# Altium schematic symbol library Interface_I2C.SchLib: 424 symbols (part 4 of 23)
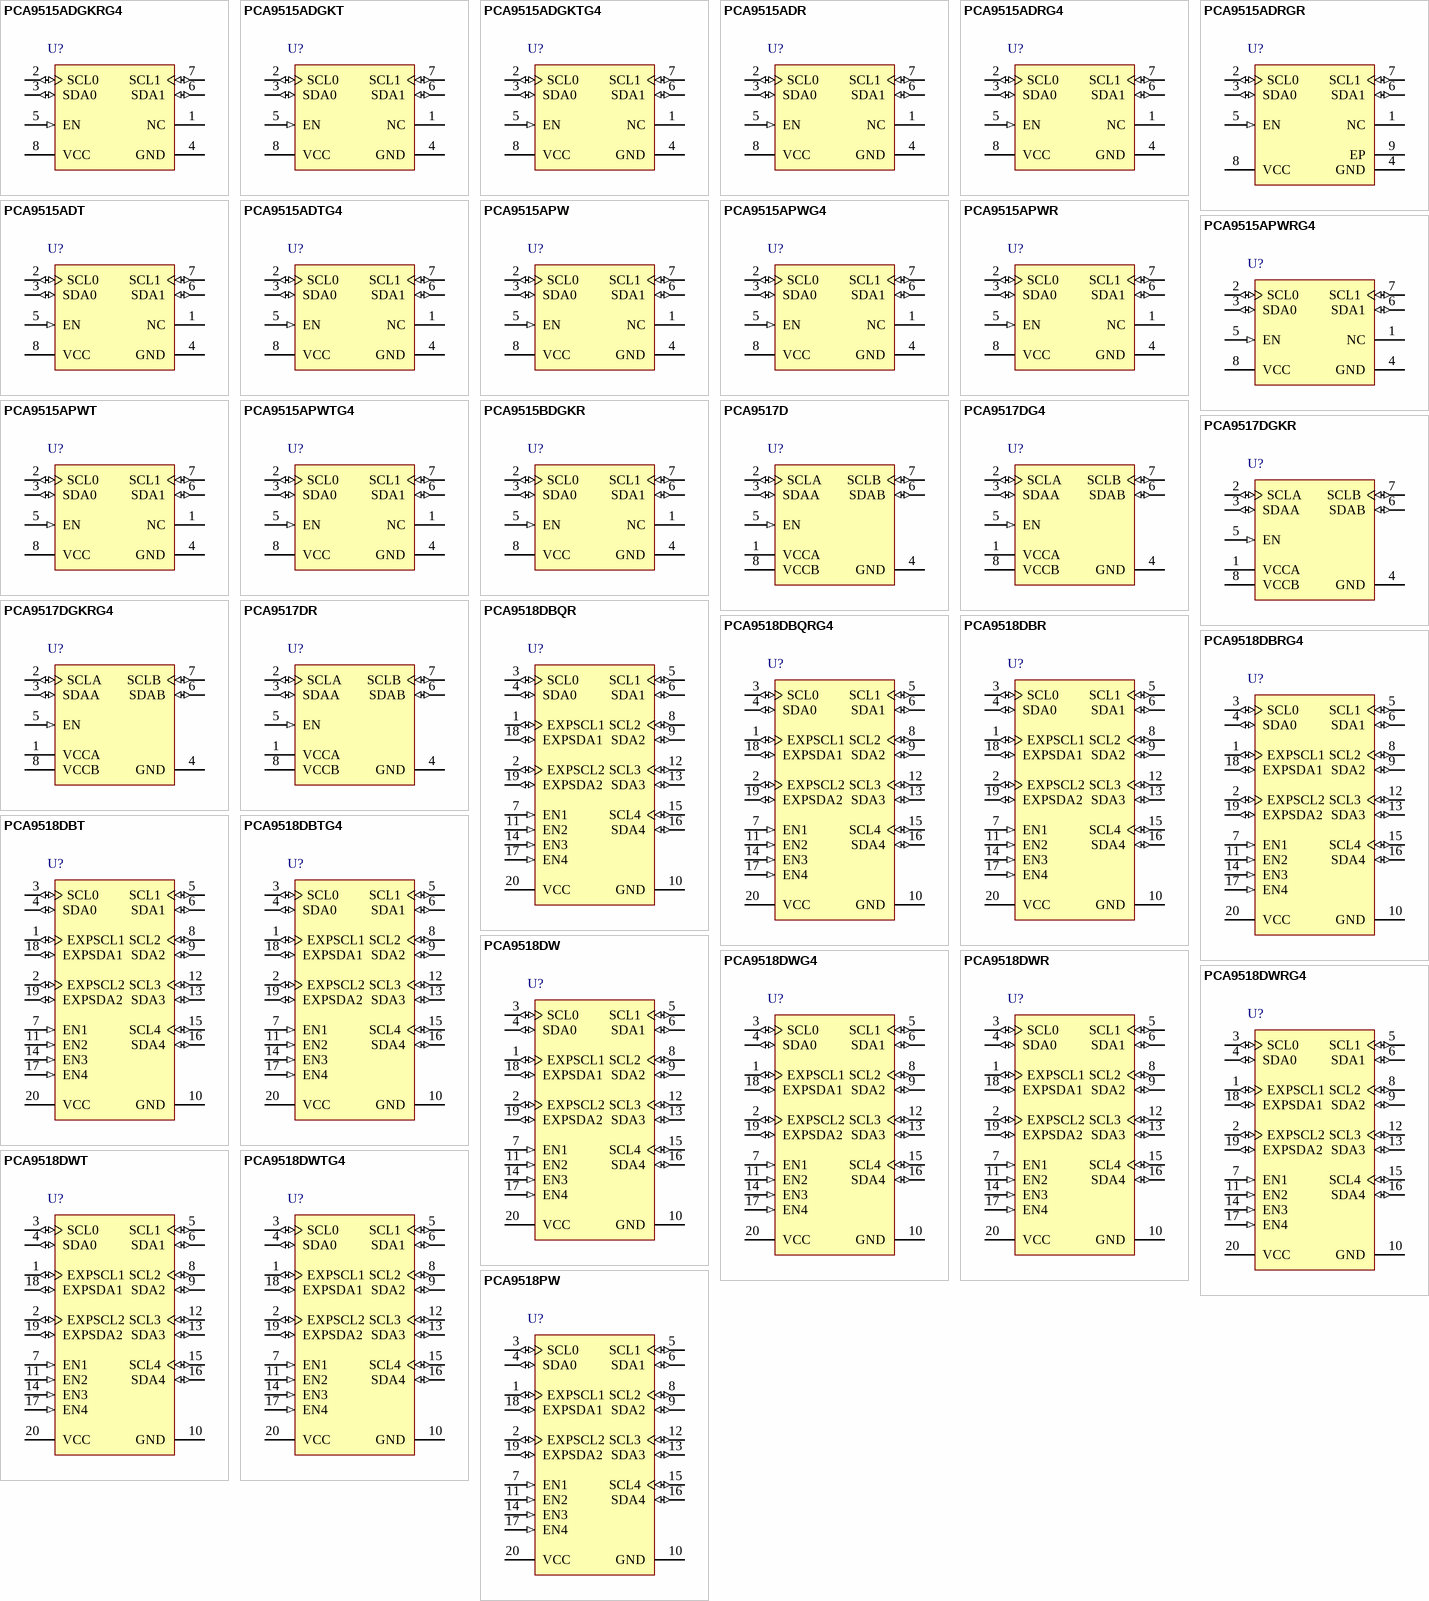
[diagram p16: symbols PCA9515ADGKRG4 to PCA9518PW]

## PCA9518DWTG4
designator U?
Expandable Five-Channel I2C Hub, 5 Channel Width, 3.0 to 3.6 V, -40 to 85 degC, 20-pin SOIC (DW), Green (RoHS & no Sb/Br); Manufacturer: Texas Instruments; PartNumber: PCA9518DWTG4; SubFamily: I2C Hub, Buffer, Repeater; VCC(Max)(V): 3.6; VCC(Min)(V): 3; Technology Family: PCA; Max Frequency(kHz): 400; Channel Width: 5; EXP Pin: Yes; DatasheetVersion: SCPS132A; PackageVersion: revG, Jan-2011; PackageReference: DW20; PackageDescription: 20-Pin Plastic Small Outline Integrated Circuit, 12.8 x 7.5 mm, Pitch 1.27 mm Pitch; Supplier 1: Digi-Key; Supplier Part Number 1: PCA9518DWTG4-ND; Supplier 2: Mouser; Supplier Part Number 2: 595-PCA9518DWTG4; Eco-Plan: Green (RoHS & no Sb/Br); Vcc range(V): 3.0 to 3.6; Master Side I2C Bus Capacitance Supported(pF): 400; Slave Side I2C Bus Capacitance Supported(pF): 400; 5V Tolerant I/O: Yes; Open Drain I/O Type: Yes; Enable Pin: Yes; Mounting Technology: Surface Mount; Code_JEDEC: MS-013-AC; ComponentLink1Description: Datasheet; ComponentLink1URL: http://www.ti.com/general/docs/lit/getliterature.tsp?genericPartNumber=PCA9518&fileType=pdf; ComponentLink2Description: Package Specification; ComponentLink2URL: http://www.ti.com/litv/pdf/mpds006c
footprint DW20_N (SOIC, 20-Leads, Body 12.8x7.5mm, Pitch 1.27mm, IPC Medium Density)
footprint DW20_L (SOIC, 20-Leads, Body 12.8x7.5mm, Pitch 1.27mm, IPC High Density)
footprint DW20_M (SOIC, 20-Leads, Body 12.8x7.5mm, Pitch 1.27mm, IPC Low Density)
pins: 1 EXPSCL1 (io) "Expandable serial clock pin 1. Connect to VCC through a pullup resistor.", 2 EXPSCL2 (io) "Expandable serial clock pin 2. Connect to VCC through a pullup resistor.", 3 SCL0 (io) "Serial clock bus 0. Connect to VCC through a pullup resistor.", 4 SDA0 (io) "Serial data bus 0. Connect to VCC through a pullup resistor.", 5 SCL1 (io) "Serial clock bus 1. Connect to VCC through a pullup resistor.", 6 SDA1 (io) "Serial data bus 1. Connect to VCC through a pullup resistor.", 7 EN1 (in) "Active-high bus enable 1", 8 SCL2 (io) "Serial clock bus 2. Connect to VCC through a pullup resistor.", 9 SDA2 (io) "Serial data bus 2. Connect to VCC through a pullup resistor.", 10 GND (power) "Ground", 11 EN2 (in) "Active-high bus enable 2", 12 SCL3 (io) "Serial clock bus 3. Connect to VCC through a pullup resistor.", 13 SDA3 (io) "Serial data bus 3. Connect to VCC through a pullup resistor.", 14 EN3 (in) "Active-high bus enable 3", 15 SCL4 (io) "Serial clock bus 4. Connect to VCC through a pullup resistor.", 16 SDA4 (io) "Serial data bus 4. Connect to VCC through a pullup resistor.", 17 EN4 (in) "Active-high bus enable 4", 18 EXPSDA1 (io) "Expandable serial data pin 1. Connect to VCC through a pullup resistor.", 19 EXPSDA2 (io) "Expandable serial data pin 2. Connect to VCC through a pullup resistor.", 20 VCC (power) "SupplyVoltage"

## PCA9518PW
designator U?
Expandable Five-Channel I2C Hub, 5 Channel Width, 3.0 to 3.6 V, -40 to 85 degC, 20-pin TSSOP (PW), Green (RoHS & no Sb/Br); Manufacturer: Texas Instruments; PartNumber: PCA9518PW; SubFamily: I2C Hub, Buffer, Repeater; VCC(Max)(V): 3.6; VCC(Min)(V): 3; Technology Family: PCA; Max Frequency(kHz): 400; Channel Width: 5; EXP Pin: Yes; DatasheetVersion: SCPS132A; PackageVersion: revG, Feb-2011; PackageReference: PW20; PackageDescription: 20-Pin Plastic Thin Small Outline Package 6.5 x 4.4 mm Body ,0.65 mm Pitch; Supplier 1: Digi-Key; Supplier Part Number 1: PCA9518PWTI-ND; Supplier 2: Newark; Supplier Part Number 2: 53M3808; Supplier 3: Mouser; Supplier Part Number 3: 595-PCA9518PW; Eco-Plan: Green (RoHS & no Sb/Br); Vcc range(V): 3.0 to 3.6; Master Side I2C Bus Capacitance Supported(pF): 400; Slave Side I2C Bus Capacitance Supported(pF): 400; 5V Tolerant I/O: Yes; Open Drain I/O Type: Yes; Enable Pin: Yes; Mounting Technology: Surface Mount; Code_JEDEC: MO-153; ComponentLink1Description: Datasheet; ComponentLink1URL: http://www.ti.com/general/docs/lit/getliterature.tsp?genericPartNumber=PCA9518&fileType=pdf
footprint PW20_N (TSOP, 20-Leads, Body 6.5x4.4mm, Pitch 0.65mm, IPC Medium Density)
footprint PW20_L (TSOP, 20-Leads, Body 6.5x4.4mm, Pitch 0.65mm, IPC High Density)
footprint PW20_M (TSOP, 20-Leads, Body 6.5x4.4mm, Pitch 0.65mm, IPC Low Density)
pins: 1 EXPSCL1 (io) "Expandable serial clock pin 1. Connect to VCC through a pullup resistor.", 2 EXPSCL2 (io) "Expandable serial clock pin 2. Connect to VCC through a pullup resistor.", 3 SCL0 (io) "Serial clock bus 0. Connect to VCC through a pullup resistor.", 4 SDA0 (io) "Serial data bus 0. Connect to VCC through a pullup resistor.", 5 SCL1 (io) "Serial clock bus 1. Connect to VCC through a pullup resistor.", 6 SDA1 (io) "Serial data bus 1. Connect to VCC through a pullup resistor.", 7 EN1 (in) "Active-high bus enable 1", 8 SCL2 (io) "Serial clock bus 2. Connect to VCC through a pullup resistor.", 9 SDA2 (io) "Serial data bus 2. Connect to VCC through a pullup resistor.", 10 GND (power) "Ground", 11 EN2 (in) "Active-high bus enable 2", 12 SCL3 (io) "Serial clock bus 3. Connect to VCC through a pullup resistor.", 13 SDA3 (io) "Serial data bus 3. Connect to VCC through a pullup resistor.", 14 EN3 (in) "Active-high bus enable 3", 15 SCL4 (io) "Serial clock bus 4. Connect to VCC through a pullup resistor.", 16 SDA4 (io) "Serial data bus 4. Connect to VCC through a pullup resistor.", 17 EN4 (in) "Active-high bus enable 4", 18 EXPSDA1 (io) "Expandable serial data pin 1. Connect to VCC through a pullup resistor.", 19 EXPSDA2 (io) "Expandable serial data pin 2. Connect to VCC through a pullup resistor.", 20 VCC (power) "Supply Voltage"

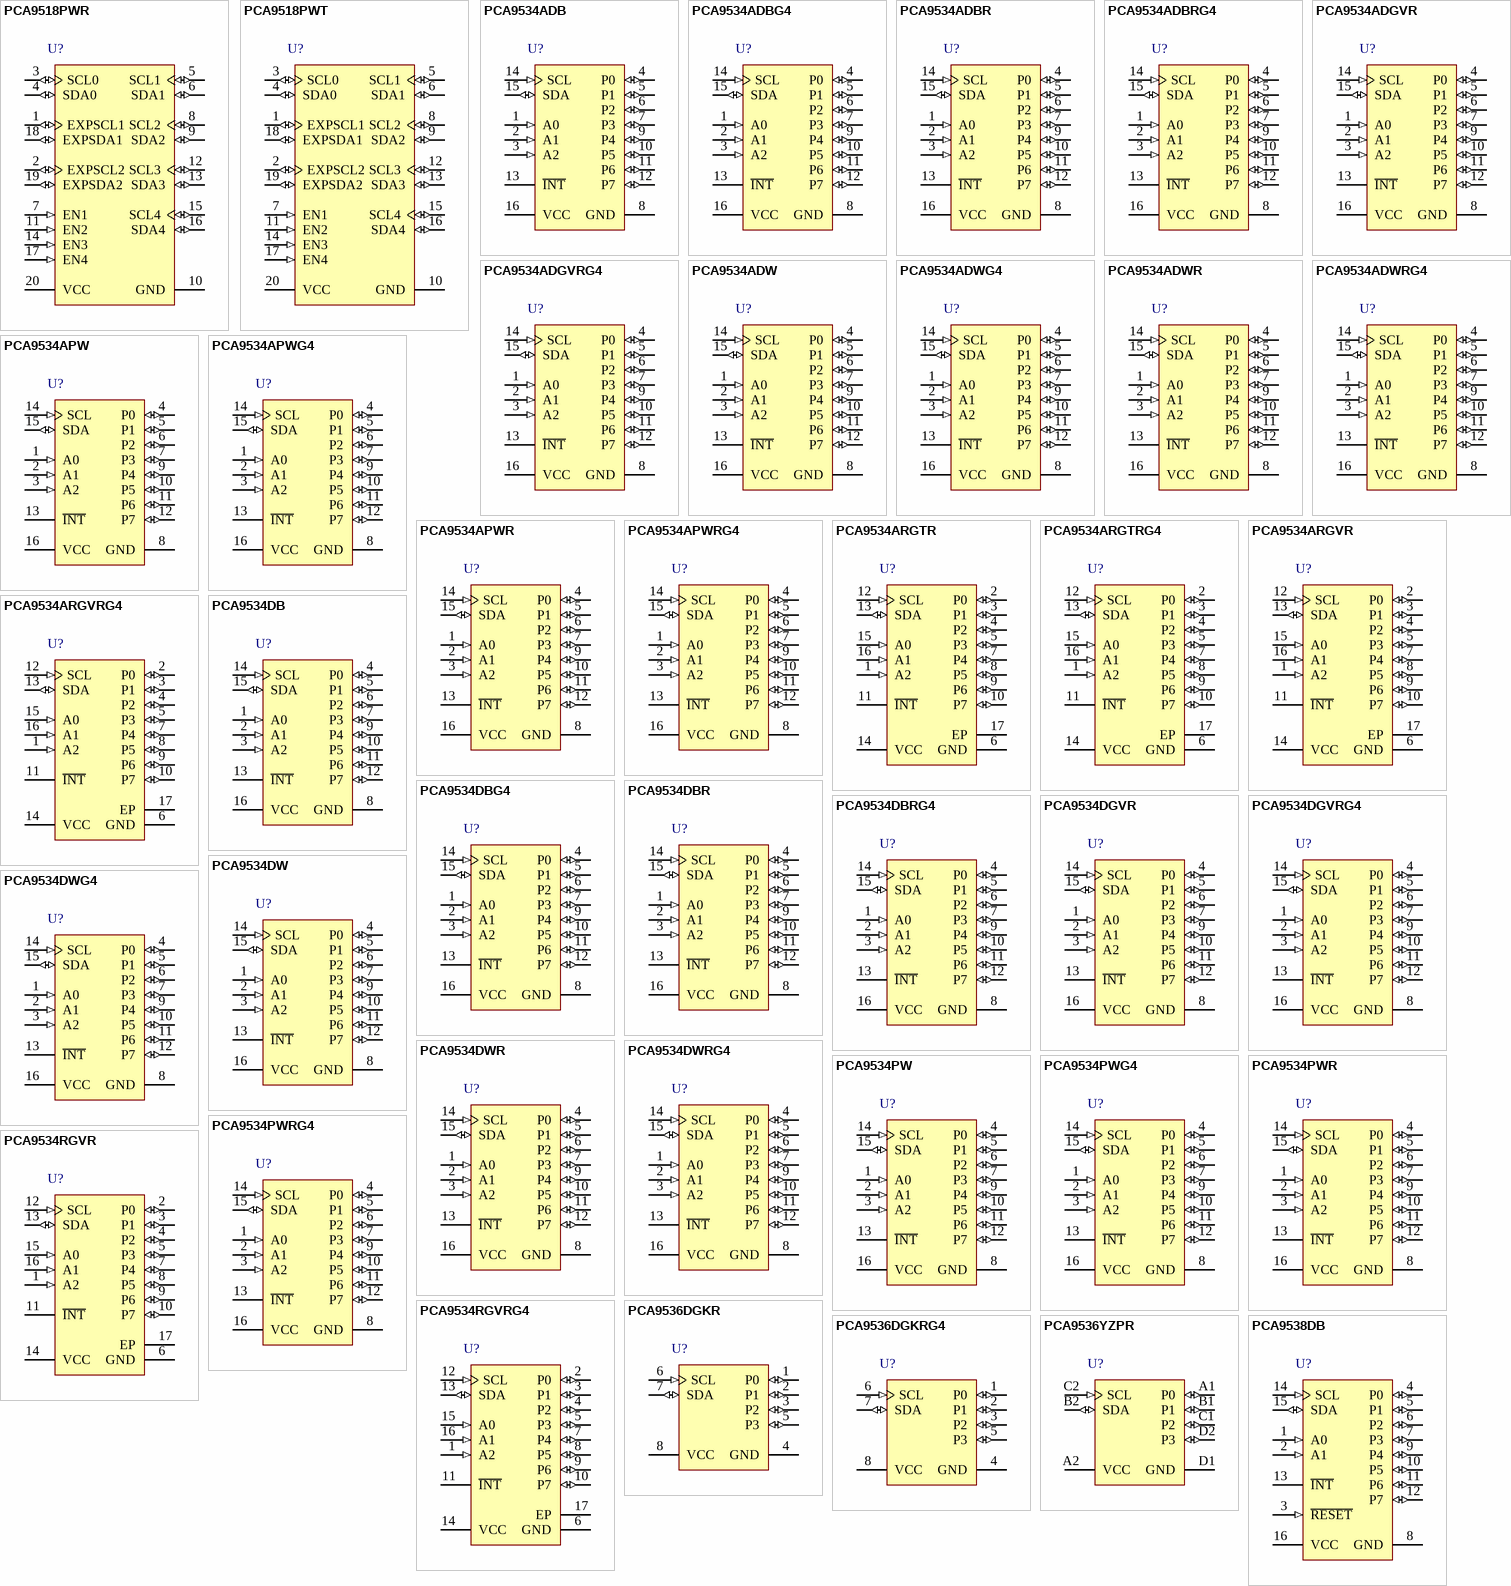
[diagram p2: symbols PCA9518PWR to PCA9538DB]

## PCA9518PWR
designator U?
Expandable Five-Channel I2C Hub, 5 Channel Width, 3.0 to 3.6 V, -40 to 85 degC, 20-pin TSSOP (PW), Green (RoHS & no Sb/Br); Manufacturer: Texas Instruments; PartNumber: PCA9518PWR; SubFamily: I2C Hub, Buffer, Repeater; VCC(Max)(V): 3.6; VCC(Min)(V): 3; Technology Family: PCA; Max Frequency(kHz): 400; Channel Width: 5; EXP Pin: Yes; DatasheetVersion: SCPS132A; PackageVersion: revG, Feb-2011; PackageReference: PW20; PackageDescription: 20-Pin Plastic Thin Small Outline Package 6.5 x 4.4 mm Body ,0.65 mm Pitch; Supplier 1: Digi-Key; Supplier Part Number 1: 296-22767-2-ND; Supplier 2: Digi-Key; Supplier Part Number 2: 296-22767-1-ND; Supplier 3: Digi-Key; Supplier Part Number 3: 296-22767-6-ND; Supplier 4: Newark; Supplier Part Number 4: 53M3809; Supplier 5: Mouser; Supplier Part Number 5: 595-PCA9518PWR; Eco-Plan: Green (RoHS & no Sb/Br); Vcc range(V): 3.0 to 3.6; Master Side I2C Bus Capacitance Supported(pF): 400; Slave Side I2C Bus Capacitance Supported(pF): 400; 5V Tolerant I/O: Yes; Open Drain I/O Type: Yes; Enable Pin: Yes; Mounting Technology: Surface Mount; Code_JEDEC: MO-153; ComponentLink1Description: Datasheet; ComponentLink1URL: http://www.ti.com/general/docs/lit/getliterature.tsp?genericPartNumber=PCA9518&fileType=pdf
footprint PW20_N (TSOP, 20-Leads, Body 6.5x4.4mm, Pitch 0.65mm, IPC Medium Density)
footprint PW20_L (TSOP, 20-Leads, Body 6.5x4.4mm, Pitch 0.65mm, IPC High Density)
footprint PW20_M (TSOP, 20-Leads, Body 6.5x4.4mm, Pitch 0.65mm, IPC Low Density)
pins: 1 EXPSCL1 (io) "Expandable serial clock pin 1. Connect to VCC through a pullup resistor.", 2 EXPSCL2 (io) "Expandable serial clock pin 2. Connect to VCC through a pullup resistor.", 3 SCL0 (io) "Serial clock bus 0. Connect to VCC through a pullup resistor.", 4 SDA0 (io) "Serial data bus 0. Connect to VCC through a pullup resistor.", 5 SCL1 (io) "Serial clock bus 1. Connect to VCC through a pullup resistor.", 6 SDA1 (io) "Serial data bus 1. Connect to VCC through a pullup resistor.", 7 EN1 (in) "Active-high bus enable 1", 8 SCL2 (io) "Serial clock bus 2. Connect to VCC through a pullup resistor.", 9 SDA2 (io) "Serial data bus 2. Connect to VCC through a pullup resistor.", 10 GND (power) "Ground", 11 EN2 (in) "Active-high bus enable 2", 12 SCL3 (io) "Serial clock bus 3. Connect to VCC through a pullup resistor.", 13 SDA3 (io) "Serial data bus 3. Connect to VCC through a pullup resistor.", 14 EN3 (in) "Active-high bus enable 3", 15 SCL4 (io) "Serial clock bus 4. Connect to VCC through a pullup resistor.", 16 SDA4 (io) "Serial data bus 4. Connect to VCC through a pullup resistor.", 17 EN4 (in) "Active-high bus enable 4", 18 EXPSDA1 (io) "Expandable serial data pin 1. Connect to VCC through a pullup resistor.", 19 EXPSDA2 (io) "Expandable serial data pin 2. Connect to VCC through a pullup resistor.", 20 VCC (power) "Supply Voltage"

## PCA9518PWT
designator U?
Expandable Five-Channel I2C Hub, 5 Channel Width, 3.0 to 3.6 V, -40 to 85 degC, 20-pin TSSOP (PW), Green (RoHS & no Sb/Br); Manufacturer: Texas Instruments; PartNumber: PCA9518PWT; SubFamily: I2C Hub, Buffer, Repeater; VCC(Max)(V): 3.6; VCC(Min)(V): 3; Technology Family: PCA; Max Frequency(kHz): 400; Channel Width: 5; EXP Pin: Yes; DatasheetVersion: SCPS132A; PackageVersion: revG, Feb-2011; PackageReference: PW20; PackageDescription: 20-Pin Plastic Thin Small Outline Package 6.5 x 4.4 mm Body ,0.65 mm Pitch; Supplier 1: Digi-Key; Supplier Part Number 1: PCA9518PWT-ND; Supplier 2: Newark; Supplier Part Number 2: 53M3810; Supplier 3: Mouser; Supplier Part Number 3: 595-PCA9518PWT; Eco-Plan: Green (RoHS & no Sb/Br); Vcc range(V): 3.0 to 3.6; Master Side I2C Bus Capacitance Supported(pF): 400; Slave Side I2C Bus Capacitance Supported(pF): 400; 5V Tolerant I/O: Yes; Open Drain I/O Type: Yes; Enable Pin: Yes; Mounting Technology: Surface Mount; Code_JEDEC: MO-153; ComponentLink1Description: Datasheet; ComponentLink1URL: http://www.ti.com/general/docs/lit/getliterature.tsp?genericPartNumber=PCA9518&fileType=pdf
footprint PW20_N (TSOP, 20-Leads, Body 6.5x4.4mm, Pitch 0.65mm, IPC Medium Density)
footprint PW20_L (TSOP, 20-Leads, Body 6.5x4.4mm, Pitch 0.65mm, IPC High Density)
footprint PW20_M (TSOP, 20-Leads, Body 6.5x4.4mm, Pitch 0.65mm, IPC Low Density)
pins: 1 EXPSCL1 (io) "Expandable serial clock pin 1. Connect to VCC through a pullup resistor.", 2 EXPSCL2 (io) "Expandable serial clock pin 2. Connect to VCC through a pullup resistor.", 3 SCL0 (io) "Serial clock bus 0. Connect to VCC through a pullup resistor.", 4 SDA0 (io) "Serial data bus 0. Connect to VCC through a pullup resistor.", 5 SCL1 (io) "Serial clock bus 1. Connect to VCC through a pullup resistor.", 6 SDA1 (io) "Serial data bus 1. Connect to VCC through a pullup resistor.", 7 EN1 (in) "Active-high bus enable 1", 8 SCL2 (io) "Serial clock bus 2. Connect to VCC through a pullup resistor.", 9 SDA2 (io) "Serial data bus 2. Connect to VCC through a pullup resistor.", 10 GND (power) "Ground", 11 EN2 (in) "Active-high bus enable 2", 12 SCL3 (io) "Serial clock bus 3. Connect to VCC through a pullup resistor.", 13 SDA3 (io) "Serial data bus 3. Connect to VCC through a pullup resistor.", 14 EN3 (in) "Active-high bus enable 3", 15 SCL4 (io) "Serial clock bus 4. Connect to VCC through a pullup resistor.", 16 SDA4 (io) "Serial data bus 4. Connect to VCC through a pullup resistor.", 17 EN4 (in) "Active-high bus enable 4", 18 EXPSDA1 (io) "Expandable serial data pin 1. Connect to VCC through a pullup resistor.", 19 EXPSDA2 (io) "Expandable serial data pin 2. Connect to VCC through a pullup resistor.", 20 VCC (power) "Supply Voltage"

## PCA9534ADB
designator U?
Remote 8-Bit I2C and Low-Power I/O Expander with Interrupt Output and Configuration Registers, 8 Outputs, 2.3 to 5.5 V, -40 to 85 degC, 16-pin SSOP (DB), Green (RoHS & no Sb/Br); Manufacturer: Texas Instruments; PartNumber: PCA9534ADB; SubFamily: I2C IO Expander; No. of Outputs: 8; Interrupt Output: Yes; fSCLK(Max)(MHz): 0.1, 0.4; VCC(Min)(V): 2.3; VCC(Max)(V): 5.5; Max Frequency(kHz): 400; I2C Address: 0111 xxx; DatasheetVersion: SCPS141F; PackageVersion: revE, Dec-2001; PackageReference: DB16; PackageDescription: 16-Pin Plastic Small Outline Package, 6.2 x 5.3 mm Body, 0.65 mm Pitch; Supplier 1: Digi-Key; Supplier Part Number 1: PCA9534ADB-ND; Supplier 2: Mouser; Supplier Part Number 2: 595-PCA9534ADB; Eco-Plan: Green (RoHS & no Sb/Br); # of I/Os: 8; Vcc range(V): 2.3 to 5.5; Low Power: Yes; Configuration Registers: Yes; 5V Tolerant I/O: Yes; Push-Pull I/O Type: Yes; Mounting Technology: Surface Mount; Code_JEDEC: MO-150; ComponentLink1Description: Datasheet; ComponentLink1URL: http://www.ti.com/general/docs/lit/getliterature.tsp?genericPartNumber=PCA9534A&fileType=pdf; ComponentLink2Description: Package Specification; ComponentLink2URL: http://www.ti.com/litv/pdf/msso002e
footprint DB16_N (SOP, 16-Leads, Body 6.2x5.3mm, Pitch 0.65mm, IPC Medium Density)
footprint DB16_L (SOP, 16-Leads, Body 6.2x5.3mm, Pitch 0.65mm, IPC High Density)
footprint DB16_M (SOP, 16-Leads, Body 6.2x5.3mm, Pitch 0.65mm, IPC Low Density)
pins: 1 A0 (in) "Address input. Connect directly to VCC or ground.", 2 A1 (in) "Address input. Connect directly to VCC or ground.", 3 A2 (in) "Address input. Connect directly to VCC or ground.", 4 P0 (io) "P-port input/output. Push-pull design structure.", 5 P1 (io) "P-port input/output. Push-pull design structure.", 6 P2 (io) "P-port input/output. Push-pull design structure.", 7 P3 (io) "P-port input/output. Push-pull design structure.", 8 GND (power) "Ground", 9 P4 (io) "P-port input/output. Push-pull design structure.", 10 P5 (io) "P-port input/output. Push-pull design structure.", 11 P6 (io) "P-port input/output. Push-pull design structure.", 12 P7 (io) "P-port input/output. Push-pull design structure.", 13 ~{INT} (oc) "Interrupt output. Connect to VCC through a pullup resistor.", 14 SCL (in) "Serial clock bus. Connect to VCC through a pullup resistor.", 15 SDA (io) "Serial data bus. Connect to VCC through a pullup resistor.", 16 VCC (power) "Supply voltage"

## PCA9534ADBG4
designator U?
Remote 8-Bit I2C and Low-Power I/O Expander with Interrupt Output and Configuration Registers, 8 Outputs, 2.3 to 5.5 V, -40 to 85 degC, 16-pin SSOP (DB), Green (RoHS & no Sb/Br); Manufacturer: Texas Instruments; PartNumber: PCA9534ADBG4; SubFamily: I2C IO Expander; No. of Outputs: 8; Interrupt Output: Yes; fSCLK(Max)(MHz): 0.1, 0.4; VCC(Min)(V): 2.3; VCC(Max)(V): 5.5; Max Frequency(kHz): 400; I2C Address: 0111 xxx; DatasheetVersion: SCPS141F; PackageVersion: revE, Dec-2001; PackageReference: DB16; PackageDescription: 16-Pin Plastic Small Outline Package, 6.2 x 5.3 mm Body, 0.65 mm Pitch; Supplier 1: Digi-Key; Supplier Part Number 1: PCA9534ADBG4-ND; Supplier 2: Mouser; Supplier Part Number 2: 595-PCA9534ADBG4; Eco-Plan: Green (RoHS & no Sb/Br); # of I/Os: 8; Vcc range(V): 2.3 to 5.5; Low Power: Yes; Configuration Registers: Yes; 5V Tolerant I/O: Yes; Push-Pull I/O Type: Yes; Mounting Technology: Surface Mount; Code_JEDEC: MO-150; ComponentLink1Description: Datasheet; ComponentLink1URL: http://www.ti.com/general/docs/lit/getliterature.tsp?genericPartNumber=PCA9534A&fileType=pdf; ComponentLink2Description: Package Specification; ComponentLink2URL: http://www.ti.com/litv/pdf/msso002e
footprint DB16_N (SOP, 16-Leads, Body 6.2x5.3mm, Pitch 0.65mm, IPC Medium Density)
footprint DB16_L (SOP, 16-Leads, Body 6.2x5.3mm, Pitch 0.65mm, IPC High Density)
footprint DB16_M (SOP, 16-Leads, Body 6.2x5.3mm, Pitch 0.65mm, IPC Low Density)
pins: 1 A0 (in) "Address input. Connect directly to VCC or ground.", 2 A1 (in) "Address input. Connect directly to VCC or ground.", 3 A2 (in) "Address input. Connect directly to VCC or ground.", 4 P0 (io) "P-port input/output. Push-pull design structure.", 5 P1 (io) "P-port input/output. Push-pull design structure.", 6 P2 (io) "P-port input/output. Push-pull design structure.", 7 P3 (io) "P-port input/output. Push-pull design structure.", 8 GND (power) "Ground", 9 P4 (io) "P-port input/output. Push-pull design structure.", 10 P5 (io) "P-port input/output. Push-pull design structure.", 11 P6 (io) "P-port input/output. Push-pull design structure.", 12 P7 (io) "P-port input/output. Push-pull design structure.", 13 ~{INT} (oc) "Interrupt output. Connect to VCC through a pullup resistor.", 14 SCL (in) "Serial clock bus. Connect to VCC through a pullup resistor.", 15 SDA (io) "Serial data bus. Connect to VCC through a pullup resistor.", 16 VCC (power) "Supply voltage"

## PCA9534ADBR
designator U?
Remote 8-Bit I2C and Low-Power I/O Expander with Interrupt Output and Configuration Registers, 8 Outputs, 2.3 to 5.5 V, -40 to 85 degC, 16-pin SSOP (DB), Green (RoHS & no Sb/Br); Manufacturer: Texas Instruments; PartNumber: PCA9534ADBR; SubFamily: I2C IO Expander; No. of Outputs: 8; Interrupt Output: Yes; fSCLK(Max)(MHz): 0.1, 0.4; VCC(Min)(V): 2.3; VCC(Max)(V): 5.5; Max Frequency(kHz): 400; I2C Address: 0111 xxx; DatasheetVersion: SCPS141F; PackageVersion: revE, Dec-2001; PackageReference: DB16; PackageDescription: 16-Pin Plastic Small Outline Package, 6.2 x 5.3 mm Body, 0.65 mm Pitch; Supplier 1: Digi-Key; Supplier Part Number 1: 296-21757-2-ND; Supplier 2: Digi-Key; Supplier Part Number 2: 296-21757-1-ND; Supplier 3: Digi-Key; Supplier Part Number 3: 296-21757-6-ND; Supplier 4: Newark; Supplier Part Number 4: 18M7509; Supplier 5: Mouser; Supplier Part Number 5: 595-PCA9534ADBR; Eco-Plan: Green (RoHS & no Sb/Br); # of I/Os: 8; Vcc range(V): 2.3 to 5.5; Low Power: Yes; Configuration Registers: Yes; 5V Tolerant I/O: Yes; Push-Pull I/O Type: Yes; Mounting Technology: Surface Mount; Code_JEDEC: MO-150; ComponentLink1Description: Datasheet; ComponentLink1URL: http://www.ti.com/general/docs/lit/getliterature.tsp?genericPartNumber=PCA9534A&fileType=pdf; ComponentLink2Description: Package Specification; ComponentLink2URL: http://www.ti.com/litv/pdf/msso002e
footprint DB16_N (SOP, 16-Leads, Body 6.2x5.3mm, Pitch 0.65mm, IPC Medium Density)
footprint DB16_L (SOP, 16-Leads, Body 6.2x5.3mm, Pitch 0.65mm, IPC High Density)
footprint DB16_M (SOP, 16-Leads, Body 6.2x5.3mm, Pitch 0.65mm, IPC Low Density)
pins: 1 A0 (in) "Address input. Connect directly to VCC or ground.", 2 A1 (in) "Address input. Connect directly to VCC or ground.", 3 A2 (in) "Address input. Connect directly to VCC or ground.", 4 P0 (io) "P-port input/output. Push-pull design structure.", 5 P1 (io) "P-port input/output. Push-pull design structure.", 6 P2 (io) "P-port input/output. Push-pull design structure.", 7 P3 (io) "P-port input/output. Push-pull design structure.", 8 GND (power) "Ground", 9 P4 (io) "P-port input/output. Push-pull design structure.", 10 P5 (io) "P-port input/output. Push-pull design structure.", 11 P6 (io) "P-port input/output. Push-pull design structure.", 12 P7 (io) "P-port input/output. Push-pull design structure.", 13 ~{INT} (oc) "Interrupt output. Connect to VCC through a pullup resistor.", 14 SCL (in) "Serial clock bus. Connect to VCC through a pullup resistor.", 15 SDA (io) "Serial data bus. Connect to VCC through a pullup resistor.", 16 VCC (power) "Supply voltage"

## PCA9534ADBRG4
designator U?
Remote 8-Bit I2C and Low-Power I/O Expander with Interrupt Output and Configuration Registers, 8 Outputs, 2.3 to 5.5 V, -40 to 85 degC, 16-pin SSOP (DB), Green (RoHS & no Sb/Br); Manufacturer: Texas Instruments; PartNumber: PCA9534ADBRG4; SubFamily: I2C IO Expander; No. of Outputs: 8; Interrupt Output: Yes; fSCLK(Max)(MHz): 0.1, 0.4; VCC(Min)(V): 2.3; VCC(Max)(V): 5.5; Max Frequency(kHz): 400; I2C Address: 0111 xxx; DatasheetVersion: SCPS141F; PackageVersion: revE, Dec-2001; PackageReference: DB16; PackageDescription: 16-Pin Plastic Small Outline Package, 6.2 x 5.3 mm Body, 0.65 mm Pitch; Supplier 1: Digi-Key; Supplier Part Number 1: PCA9534ADBRG4-ND; Supplier 2: Mouser; Supplier Part Number 2: 595-PCA9534ADBRG4; Eco-Plan: Green (RoHS & no Sb/Br); # of I/Os: 8; Vcc range(V): 2.3 to 5.5; Low Power: Yes; Configuration Registers: Yes; 5V Tolerant I/O: Yes; Push-Pull I/O Type: Yes; Mounting Technology: Surface Mount; Code_JEDEC: MO-150; ComponentLink1Description: Datasheet; ComponentLink1URL: http://www.ti.com/general/docs/lit/getliterature.tsp?genericPartNumber=PCA9534A&fileType=pdf; ComponentLink2Description: Package Specification; ComponentLink2URL: http://www.ti.com/litv/pdf/msso002e
footprint DB16_N (SOP, 16-Leads, Body 6.2x5.3mm, Pitch 0.65mm, IPC Medium Density)
footprint DB16_L (SOP, 16-Leads, Body 6.2x5.3mm, Pitch 0.65mm, IPC High Density)
footprint DB16_M (SOP, 16-Leads, Body 6.2x5.3mm, Pitch 0.65mm, IPC Low Density)
pins: 1 A0 (in) "Address input. Connect directly to VCC or ground.", 2 A1 (in) "Address input. Connect directly to VCC or ground.", 3 A2 (in) "Address input. Connect directly to VCC or ground.", 4 P0 (io) "P-port input/output. Push-pull design structure.", 5 P1 (io) "P-port input/output. Push-pull design structure.", 6 P2 (io) "P-port input/output. Push-pull design structure.", 7 P3 (io) "P-port input/output. Push-pull design structure.", 8 GND (power) "Ground", 9 P4 (io) "P-port input/output. Push-pull design structure.", 10 P5 (io) "P-port input/output. Push-pull design structure.", 11 P6 (io) "P-port input/output. Push-pull design structure.", 12 P7 (io) "P-port input/output. Push-pull design structure.", 13 ~{INT} (oc) "Interrupt output. Connect to VCC through a pullup resistor.", 14 SCL (in) "Serial clock bus. Connect to VCC through a pullup resistor.", 15 SDA (io) "Serial data bus. Connect to VCC through a pullup resistor.", 16 VCC (power) "Supply voltage"

## PCA9534ADGVR
designator U?
Remote 8-Bit I2C and Low-Power I/O Expander with Interrupt Output and Configuration Registers, 8 Outputs, 2.3 to 5.5 V, -40 to 85 degC, 16-pin TVSOP (DGV) , Green (RoHS & no Sb/Br); Manufacturer: Texas Instruments; PartNumber: PCA9534ADGVR; SubFamily: I2C IO Expander; No. of Outputs: 8; Interrupt Output: Yes; fSCLK(Max)(MHz): 0.1, 0.4; VCC(Min)(V): 2.3; VCC(Max)(V): 5.5; Max Frequency(kHz): 400; I2C Address: 0111 xxx; DatasheetVersion: SCPS141F; PackageVersion: revE, Aug-2000; PackageReference: DGV16; PackageDescription: 16-Pin Thin Shrink Small Outline Package 0.4 mm Pitch; Supplier 1: Digi-Key; Supplier Part Number 1: 296-21758-2-ND; Supplier 2: Digi-Key; Supplier Part Number 2: 296-21758-1-ND; Supplier 3: Digi-Key; Supplier Part Number 3: 296-21758-6-ND; Supplier 4: Mouser; Supplier Part Number 4: 595-PCA9534ADGVR; Eco-Plan: Green (RoHS & no Sb/Br); # of I/Os: 8; Vcc range(V): 2.3 to 5.5; Low Power: Yes; Configuration Registers: Yes; 5V Tolerant I/O: Yes; Push-Pull I/O Type: Yes; Mounting Technology: Surface Mount; Code_JEDEC: MO-194; ComponentLink1Description: Datasheet; ComponentLink1URL: http://www.ti.com/general/docs/lit/getliterature.tsp?genericPartNumber=PCA9534A&fileType=pdf; ComponentLink2Description: Package Specification; ComponentLink2URL: http://www.ti.com/litv/pdf/msso002e
footprint DGV16_N (TSSOP, 16-Leads, Body 3.6x4.4mm, Pitch 0.4mm, IPC Medium Density)
footprint DGV16_L (TSSOP, 16-Leads, Body 3.6x4.4mm, Pitch 0.4mm, IPC High Density)
footprint DGV16_M (TSSOP, 16-Leads, Body 3.6x4.4mm, Pitch 0.4mm, IPC Low Density)
pins: 1 A0 (in) "Address input. Connect directly to VCC or ground.", 2 A1 (in) "Address input. Connect directly to VCC or ground.", 3 A2 (in) "Address input. Connect directly to VCC or ground.", 4 P0 (io) "P-port input/output. Push-pull design structure.", 5 P1 (io) "P-port input/output. Push-pull design structure.", 6 P2 (io) "P-port input/output. Push-pull design structure.", 7 P3 (io) "P-port input/output. Push-pull design structure.", 8 GND (power) "Ground", 9 P4 (io) "P-port input/output. Push-pull design structure.", 10 P5 (io) "P-port input/output. Push-pull design structure.", 11 P6 (io) "P-port input/output. Push-pull design structure.", 12 P7 (io) "P-port input/output. Push-pull design structure.", 13 ~{INT} (oc) "Interrupt output. Connect to VCC through a pullup resistor.", 14 SCL (in) "Serial clock bus. Connect to VCC through a pullup resistor.", 15 SDA (io) "Serial data bus. Connect to VCC through a pullup resistor.", 16 VCC (power) "Supply voltage"

## PCA9534ADGVRG4
designator U?
Remote 8-Bit I2C and Low-Power I/O Expander with Interrupt Output and Configuration Register, 8 Outputs, 2.3 to 5.5 V, -40 to 85 degC, 16-pin TVSOP (DGV) , Green (RoHS & no Sb/Br); Manufacturer: Texas Instruments; PartNumber: PCA9534ADGVRG4; SubFamily: I2C IO Expander; No. of Outputs: 8; Interrupt Output: Yes; fSCLK(Max)(MHz): 0.1, 0.4; VCC(Min)(V): 2.3; VCC(Max)(V): 5.5; Max Frequency(kHz): 400; I2C Address: 0111 xxx; DatasheetVersion: SCPS141F; PackageVersion: revE, Aug-2000; PackageReference: DGV16; PackageDescription: 16-Pin Thin Shrink Small Outline Package 0.4 mm Pitch; Supplier 1: Digi-Key; Supplier Part Number 1: PCA9534ADGVRG4-ND; Supplier 2: Mouser; Supplier Part Number 2: 595-PCA9534ADGVRG4; Eco-Plan: Green (RoHS & no Sb/Br); # of I/Os: 8; Vcc range(V): 2.3 to 5.5; Low Power: Yes; Configuration Registers: Yes; 5V Tolerant I/O: Yes; Push-Pull I/O Type: Yes; Mounting Technology: Surface Mount; Code_JEDEC: MO-194; ComponentLink1Description: Datasheet; ComponentLink1URL: http://www.ti.com/general/docs/lit/getliterature.tsp?genericPartNumber=PCA9534A&fileType=pdf; ComponentLink2Description: Package Specification; ComponentLink2URL: http://www.ti.com/litv/pdf/msso002e
footprint DGV16_N (TSSOP, 16-Leads, Body 3.6x4.4mm, Pitch 0.4mm, IPC Medium Density)
footprint DGV16_L (TSSOP, 16-Leads, Body 3.6x4.4mm, Pitch 0.4mm, IPC High Density)
footprint DGV16_M (TSSOP, 16-Leads, Body 3.6x4.4mm, Pitch 0.4mm, IPC Low Density)
pins: 1 A0 (in) "Address input. Connect directly to VCC or ground.", 2 A1 (in) "Address input. Connect directly to VCC or ground.", 3 A2 (in) "Address input. Connect directly to VCC or ground.", 4 P0 (io) "P-port input/output. Push-pull design structure.", 5 P1 (io) "P-port input/output. Push-pull design structure.", 6 P2 (io) "P-port input/output. Push-pull design structure.", 7 P3 (io) "P-port input/output. Push-pull design structure.", 8 GND (power) "Ground", 9 P4 (io) "P-port input/output. Push-pull design structure.", 10 P5 (io) "P-port input/output. Push-pull design structure.", 11 P6 (io) "P-port input/output. Push-pull design structure.", 12 P7 (io) "P-port input/output. Push-pull design structure.", 13 ~{INT} (oc) "Interrupt output. Connect to VCC through a pullup resistor.", 14 SCL (in) "Serial clock bus. Connect to VCC through a pullup resistor.", 15 SDA (io) "Serial data bus. Connect to VCC through a pullup resistor.", 16 VCC (power) "Supply voltage"

## PCA9534ADW
designator U?
Remote 8-Bit I2C and Low-Power I/O Expander with Interrupt Output and Configuration Register, 8 Outputs, 2.3 to 5.5 V, -40 to 85 degC, 16-pin SOIC (DW), Green (RoHS & no Sb/Br); Manufacturer: Texas Instruments; PartNumber: PCA9534ADW; SubFamily: I2C IO Expander; No. of Outputs: 8; Interrupt Output: Yes; fSCLK(Max)(MHz): 0.1, 0.4; VCC(Min)(V): 2.3; VCC(Max)(V): 5.5; Max Frequency(kHz): 400; I2C Address: 0111 xxx; DatasheetVersion: SCPS141F; PackageVersion: revG, Jan-2011; PackageReference: DW16; PackageDescription: 16-Pin Small Outline Integrated Circuit, 10.3 x 7.5 mm, Pitch 1.27 mm Pitch; Supplier 1: Digi-Key; Supplier Part Number 1: PCA9534ADW-ND; Supplier 2: Mouser; Supplier Part Number 2: 595-PCA9534ADW; Eco-Plan: Green (RoHS & no Sb/Br); # of I/Os: 8; Vcc range(V): 2.3 to 5.5; Low Power: Yes; Configuration Registers: Yes; 5V Tolerant I/O: Yes; Push-Pull I/O Type: Yes; Mounting Technology: Surface Mount; Code_JEDEC: MS-013-AA; ComponentLink1Description: Datasheet; ComponentLink1URL: http://www.ti.com/general/docs/lit/getliterature.tsp?genericPartNumber=PCA9534A&fileType=pdf; ComponentLink2Description: Package Specification; ComponentLink2URL: http://www.ti.com/litv/pdf/msoi003g
footprint DW16_N (SOIC, 16-Leads, Body 10.3x7.5mm, Pitch 1.27mm, IPC Medium Density)
footprint DW16_L (SOIC, 16-Leads, Body 10.3x7.5mm, Pitch 1.27mm, IPC High Density)
footprint DW16_M (SOIC, 16-Leads, Body 10.3x7.5mm, Pitch 1.27mm, IPC Low Density)
pins: 1 A0 (in) "Address input. Connect directly to VCC or ground.", 2 A1 (in) "Address input. Connect directly to VCC or ground.", 3 A2 (in) "Address input. Connect directly to VCC or ground.", 4 P0 (io) "P-port input/output. Push-pull design structure.", 5 P1 (io) "P-port input/output. Push-pull design structure.", 6 P2 (io) "P-port input/output. Push-pull design structure.", 7 P3 (io) "P-port input/output. Push-pull design structure.", 8 GND (power) "Ground", 9 P4 (io) "P-port input/output. Push-pull design structure.", 10 P5 (io) "P-port input/output. Push-pull design structure.", 11 P6 (io) "P-port input/output. Push-pull design structure.", 12 P7 (io) "P-port input/output. Push-pull design structure.", 13 ~{INT} (oc) "Interrupt output. Connect to VCC through a pullup resistor.", 14 SCL (in) "Serial clock bus. Connect to VCC through a pullup resistor.", 15 SDA (io) "Serial data bus. Connect to VCC through a pullup resistor.", 16 VCC (power) "Supply voltage"

## PCA9534ADWG4
designator U?
Remote 8-Bit I2C and Low-Power I/O Expander with Interrupt Output and Configuration Register, 8 Outputs, 2.3 to 5.5 V, -40 to 85 degC, 16-pin SOIC (DW), Green (RoHS & no Sb/Br); Manufacturer: Texas Instruments; PartNumber: PCA9534ADWG4; SubFamily: I2C IO Expander; No. of Outputs: 8; Interrupt Output: Yes; fSCLK(Max)(MHz): 0.1, 0.4; VCC(Min)(V): 2.3; VCC(Max)(V): 5.5; Max Frequency(kHz): 400; I2C Address: 0111 xxx; DatasheetVersion: SCPS141F; PackageVersion: revG, Jan-2011; PackageReference: DW16; PackageDescription: 16-Pin Small Outline Integrated Circuit, 10.3 x 7.5 mm, Pitch 1.27 mm Pitch; Supplier 1: Digi-Key; Supplier Part Number 1: PCA9534ADWG4-ND; Supplier 2: Mouser; Supplier Part Number 2: 595-PCA9534ADWG4; Eco-Plan: Green (RoHS & no Sb/Br); # of I/Os: 8; Vcc range(V): 2.3 to 5.5; Low Power: Yes; Configuration Registers: Yes; 5V Tolerant I/O: Yes; Push-Pull I/O Type: Yes; Mounting Technology: Surface Mount; Code_JEDEC: MS-013-AA; ComponentLink1Description: Datasheet; ComponentLink1URL: http://www.ti.com/general/docs/lit/getliterature.tsp?genericPartNumber=PCA9534A&fileType=pdf; ComponentLink2Description: Package Specification; ComponentLink2URL: http://www.ti.com/litv/pdf/msoi003g
footprint DW16_N (SOIC, 16-Leads, Body 10.3x7.5mm, Pitch 1.27mm, IPC Medium Density)
footprint DW16_L (SOIC, 16-Leads, Body 10.3x7.5mm, Pitch 1.27mm, IPC High Density)
footprint DW16_M (SOIC, 16-Leads, Body 10.3x7.5mm, Pitch 1.27mm, IPC Low Density)
pins: 1 A0 (in) "Address input. Connect directly to VCC or ground.", 2 A1 (in) "Address input. Connect directly to VCC or ground.", 3 A2 (in) "Address input. Connect directly to VCC or ground.", 4 P0 (io) "P-port input/output. Push-pull design structure.", 5 P1 (io) "P-port input/output. Push-pull design structure.", 6 P2 (io) "P-port input/output. Push-pull design structure.", 7 P3 (io) "P-port input/output. Push-pull design structure.", 8 GND (power) "Ground", 9 P4 (io) "P-port input/output. Push-pull design structure.", 10 P5 (io) "P-port input/output. Push-pull design structure.", 11 P6 (io) "P-port input/output. Push-pull design structure.", 12 P7 (io) "P-port input/output. Push-pull design structure.", 13 ~{INT} (oc) "Interrupt output. Connect to VCC through a pullup resistor.", 14 SCL (in) "Serial clock bus. Connect to VCC through a pullup resistor.", 15 SDA (io) "Serial data bus. Connect to VCC through a pullup resistor.", 16 VCC (power) "Supply voltage"

## PCA9534ADWR
designator U?
Remote 8-Bit I2C and Low-Power I/O Expander with Interrupt Output and Configuration Register, 8 Outputs, 2.3 to 5.5 V, -40 to 85 degC, 16-pin SOIC (DW), Green (RoHS & no Sb/Br); Manufacturer: Texas Instruments; PartNumber: PCA9534ADWR; SubFamily: I2C IO Expander; No. of Outputs: 8; Interrupt Output: Yes; fSCLK(Max)(MHz): 0.1, 0.4; VCC(Min)(V): 2.3; VCC(Max)(V): 5.5; Max Frequency(kHz): 400; I2C Address: 0111 xxx; DatasheetVersion: SCPS141F; PackageVersion: revG, Jan-2011; PackageReference: DW16; PackageDescription: 16-Pin Small Outline Integrated Circuit, 10.3 x 7.5 mm, Pitch 1.27 mm Pitch; Supplier 1: Digi-Key; Supplier Part Number 1: 296-21759-2-ND; Supplier 2: Digi-Key; Supplier Part Number 2: 296-21759-1-ND; Supplier 3: Digi-Key; Supplier Part Number 3: 296-21759-6-ND; Supplier 4: Mouser; Supplier Part Number 4: 595-PCA9534ADWR; Eco-Plan: Green (RoHS & no Sb/Br); # of I/Os: 8; Vcc range(V): 2.3 to 5.5; Low Power: Yes; Configuration Registers: Yes; 5V Tolerant I/O: Yes; Push-Pull I/O Type: Yes; Mounting Technology: Surface Mount; Code_JEDEC: MS-013-AA; ComponentLink1Description: Datasheet; ComponentLink1URL: http://www.ti.com/general/docs/lit/getliterature.tsp?genericPartNumber=PCA9534A&fileType=pdf; ComponentLink2Description: Package Specification; ComponentLink2URL: http://www.ti.com/litv/pdf/msoi003g
footprint DW16_N (SOIC, 16-Leads, Body 10.3x7.5mm, Pitch 1.27mm, IPC Medium Density)
footprint DW16_L (SOIC, 16-Leads, Body 10.3x7.5mm, Pitch 1.27mm, IPC High Density)
footprint DW16_M (SOIC, 16-Leads, Body 10.3x7.5mm, Pitch 1.27mm, IPC Low Density)
pins: 1 A0 (in) "Address input. Connect directly to VCC or ground.", 2 A1 (in) "Address input. Connect directly to VCC or ground.", 3 A2 (in) "Address input. Connect directly to VCC or ground.", 4 P0 (io) "P-port input/output. Push-pull design structure.", 5 P1 (io) "P-port input/output. Push-pull design structure.", 6 P2 (io) "P-port input/output. Push-pull design structure.", 7 P3 (io) "P-port input/output. Push-pull design structure.", 8 GND (power) "Ground", 9 P4 (io) "P-port input/output. Push-pull design structure.", 10 P5 (io) "P-port input/output. Push-pull design structure.", 11 P6 (io) "P-port input/output. Push-pull design structure.", 12 P7 (io) "P-port input/output. Push-pull design structure.", 13 ~{INT} (oc) "Interrupt output. Connect to VCC through a pullup resistor.", 14 SCL (in) "Serial clock bus. Connect to VCC through a pullup resistor.", 15 SDA (io) "Serial data bus. Connect to VCC through a pullup resistor.", 16 VCC (power) "Supply voltage"

## PCA9534ADWRG4
designator U?
Remote 8-Bit I2C and Low-Power I/O Expander with Interrupt Output and Configuration Register, 8 Outputs, 2.3 to 5.5 V, -40 to 85 degC, 16-pin SOIC (DW), Green (RoHS & no Sb/Br); Manufacturer: Texas Instruments; PartNumber: PCA9534ADWRG4; SubFamily: I2C IO Expander; No. of Outputs: 8; Interrupt Output: Yes; fSCLK(Max)(MHz): 0.1, 0.4; VCC(Min)(V): 2.3; VCC(Max)(V): 5.5; Max Frequency(kHz): 400; I2C Address: 0111 xxx; DatasheetVersion: SCPS141F; PackageVersion: revG, Jan-2011; PackageReference: DW16; PackageDescription: 16-Pin Small Outline Integrated Circuit, 10.3 x 7.5 mm, Pitch 1.27 mm Pitch; Supplier 1: Digi-Key; Supplier Part Number 1: PCA9534ADWRG4-ND; Supplier 2: Mouser; Supplier Part Number 2: 595-PCA9534ADWRG4; Eco-Plan: Green (RoHS & no Sb/Br); # of I/Os: 8; Vcc range(V): 2.3 to 5.5; Low Power: Yes; Configuration Registers: Yes; 5V Tolerant I/O: Yes; Push-Pull I/O Type: Yes; Mounting Technology: Surface Mount; Code_JEDEC: MS-013-AA; ComponentLink1Description: Datasheet; ComponentLink1URL: http://www.ti.com/general/docs/lit/getliterature.tsp?genericPartNumber=PCA9534A&fileType=pdf; ComponentLink2Description: Package Specification; ComponentLink2URL: http://www.ti.com/litv/pdf/msoi003g
footprint DW16_N (SOIC, 16-Leads, Body 10.3x7.5mm, Pitch 1.27mm, IPC Medium Density)
footprint DW16_L (SOIC, 16-Leads, Body 10.3x7.5mm, Pitch 1.27mm, IPC High Density)
footprint DW16_M (SOIC, 16-Leads, Body 10.3x7.5mm, Pitch 1.27mm, IPC Low Density)
pins: 1 A0 (in) "Address input. Connect directly to VCC or ground.", 2 A1 (in) "Address input. Connect directly to VCC or ground.", 3 A2 (in) "Address input. Connect directly to VCC or ground.", 4 P0 (io) "P-port input/output. Push-pull design structure.", 5 P1 (io) "P-port input/output. Push-pull design structure.", 6 P2 (io) "P-port input/output. Push-pull design structure.", 7 P3 (io) "P-port input/output. Push-pull design structure.", 8 GND (power) "Ground", 9 P4 (io) "P-port input/output. Push-pull design structure.", 10 P5 (io) "P-port input/output. Push-pull design structure.", 11 P6 (io) "P-port input/output. Push-pull design structure.", 12 P7 (io) "P-port input/output. Push-pull design structure.", 13 ~{INT} (oc) "Interrupt output. Connect to VCC through a pullup resistor.", 14 SCL (in) "Serial clock bus. Connect to VCC through a pullup resistor.", 15 SDA (io) "Serial data bus. Connect to VCC through a pullup resistor.", 16 VCC (power) "Supply voltage"

## PCA9534APW
designator U?
Remote 8-Bit I2C and Low-Power I/O Expander with Interrupt Output and Configuration Register, 8 Outputs, 2.3 to 5.5 V, -40 to 85 degC, 16-pin TSSOP (PW), Green (RoHS & no Sb/Br); Manufacturer: Texas Instruments; PartNumber: PCA9534APW; SubFamily: I2C IO Expander; No. of Outputs: 8; Interrupt Output: Yes; fSCLK(Max)(MHz): 0.1, 0.4; VCC(Min)(V): 2.3; VCC(Max)(V): 5.5; Max Frequency(kHz): 400; I2C Address: 0111 xxx; DatasheetVersion: SCPS141F; PackageVersion: revG, Feb-2011; PackageReference: PW16; PackageDescription: 16-Pin Plastic Thin Small Outline Package 5 x 4.4 mm Body ,0.65 mm Pitch; Supplier 1: Digi-Key; Supplier Part Number 1: PCA9534APW-ND; Supplier 2: Newark; Supplier Part Number 2: 18M7511; Supplier 3: Mouser; Supplier Part Number 3: 595-PCA9534APW; Eco-Plan: Green (RoHS & no Sb/Br); # of I/Os: 8; Vcc range(V): 2.3 to 5.5; Low Power: Yes; Configuration Registers: Yes; 5V Tolerant I/O: Yes; Push-Pull I/O Type: Yes; Mounting Technology: Surface Mount; Code_JEDEC: MO-153; ComponentLink1Description: Datasheet; ComponentLink1URL: http://www.ti.com/general/docs/lit/getliterature.tsp?genericPartNumber=PCA9534A&fileType=pdf
footprint PW16_N (TSOP, 16-Leads, Body 5x4.4mm, Pitch 0.65mm, IPC Medium Density)
footprint PW16_L (TSOP, 16-Leads, Body 5x4.4mm, Pitch 0.65mm, IPC High Density)
footprint PW16_M (TSOP, 16-Leads, Body 5x4.4mm, Pitch 0.65mm, IPC Low Density)
pins: 1 A0 (in) "Address input. Connect directly to VCC or ground.", 2 A1 (in) "Address input. Connect directly to VCC or ground.", 3 A2 (in) "Address input. Connect directly to VCC or ground.", 4 P0 (io) "P-port input/output. Push-pull design structure.", 5 P1 (io) "P-port input/output. Push-pull design structure.", 6 P2 (io) "P-port input/output. Push-pull design structure.", 7 P3 (io) "P-port input/output. Push-pull design structure.", 8 GND (power) "Ground", 9 P4 (io) "P-port input/output. Push-pull design structure.", 10 P5 (io) "P-port input/output. Push-pull design structure.", 11 P6 (io) "P-port input/output. Push-pull design structure.", 12 P7 (io) "P-port input/output. Push-pull design structure.", 13 ~{INT} (oc) "Interrupt output. Connect to VCC through a pullup resistor.", 14 SCL (in) "Serial clock bus. Connect to VCC through a pullup resistor.", 15 SDA (io) "Serial data bus. Connect to VCC through a pullup resistor.", 16 VCC (power) "Supply voltage"

## PCA9534APWG4
designator U?
Remote 8-Bit I2C and Low-Power I/O Expander with Interrupt Output and Configuration Register, 8 Outputs, 2.3 to 5.5 V, -40 to 85 degC, 16-pin TSSOP (PW), Green (RoHS & no Sb/Br); Manufacturer: Texas Instruments; PartNumber: PCA9534APWG4; SubFamily: I2C IO Expander; No. of Outputs: 8; Interrupt Output: Yes; fSCLK(Max)(MHz): 0.1, 0.4; VCC(Min)(V): 2.3; VCC(Max)(V): 5.5; Max Frequency(kHz): 400; I2C Address: 0111 xxx; DatasheetVersion: SCPS141F; PackageVersion: revG, Feb-2011; PackageReference: PW16; PackageDescription: 16-Pin Plastic Thin Small Outline Package 5 x 4.4 mm Body ,0.65 mm Pitch; Supplier 1: Digi-Key; Supplier Part Number 1: PCA9534APWG4-ND; Supplier 2: Newark; Supplier Part Number 2: 20M5678; Supplier 3: Mouser; Supplier Part Number 3: 595-PCA9534APWG4; Eco-Plan: Green (RoHS & no Sb/Br); # of I/Os: 8; Vcc range(V): 2.3 to 5.5; Low Power: Yes; Configuration Registers: Yes; 5V Tolerant I/O: Yes; Push-Pull I/O Type: Yes; Mounting Technology: Surface Mount; Code_JEDEC: MO-153; ComponentLink1Description: Datasheet; ComponentLink1URL: http://www.ti.com/general/docs/lit/getliterature.tsp?genericPartNumber=PCA9534A&fileType=pdf
footprint PW16_N (TSOP, 16-Leads, Body 5x4.4mm, Pitch 0.65mm, IPC Medium Density)
footprint PW16_L (TSOP, 16-Leads, Body 5x4.4mm, Pitch 0.65mm, IPC High Density)
footprint PW16_M (TSOP, 16-Leads, Body 5x4.4mm, Pitch 0.65mm, IPC Low Density)
pins: 1 A0 (in) "Address input. Connect directly to VCC or ground.", 2 A1 (in) "Address input. Connect directly to VCC or ground.", 3 A2 (in) "Address input. Connect directly to VCC or ground.", 4 P0 (io) "P-port input/output. Push-pull design structure.", 5 P1 (io) "P-port input/output. Push-pull design structure.", 6 P2 (io) "P-port input/output. Push-pull design structure.", 7 P3 (io) "P-port input/output. Push-pull design structure.", 8 GND (power) "Ground", 9 P4 (io) "P-port input/output. Push-pull design structure.", 10 P5 (io) "P-port input/output. Push-pull design structure.", 11 P6 (io) "P-port input/output. Push-pull design structure.", 12 P7 (io) "P-port input/output. Push-pull design structure.", 13 ~{INT} (oc) "Interrupt output. Connect to VCC through a pullup resistor.", 14 SCL (in) "Serial clock bus. Connect to VCC through a pullup resistor.", 15 SDA (io) "Serial data bus. Connect to VCC through a pullup resistor.", 16 VCC (power) "Supply voltage"

## PCA9534APWR
designator U?
Remote 8-Bit I2C and Low-Power I/O Expander with Interrupt Output and Configuration Register, 8 Outputs, 2.3 to 5.5 V, -40 to 85 degC, 16-pin TSSOP (PW), Green (RoHS & no Sb/Br); Manufacturer: Texas Instruments; PartNumber: PCA9534APWR; SubFamily: I2C IO Expander; No. of Outputs: 8; Interrupt Output: Yes; fSCLK(Max)(MHz): 0.1, 0.4; VCC(Min)(V): 2.3; VCC(Max)(V): 5.5; Max Frequency(kHz): 400; I2C Address: 0111 xxx; DatasheetVersion: SCPS141F; PackageVersion: revG, Feb-2011; PackageReference: PW16; PackageDescription: 16-Pin Plastic Thin Small Outline Package 5 x 4.4 mm Body ,0.65 mm Pitch; Supplier 1: Digi-Key; Supplier Part Number 1: 296-21760-2-ND; Supplier 2: Digi-Key; Supplier Part Number 2: 296-21760-1-ND; Supplier 3: Digi-Key; Supplier Part Number 3: 296-21760-6-ND; Supplier 4: Newark; Supplier Part Number 4: 18M7512; Supplier 5: Mouser; Supplier Part Number 5: 595-PCA9534APWR; Eco-Plan: Green (RoHS & no Sb/Br); # of I/Os: 8; Vcc range(V): 2.3 to 5.5; Low Power: Yes; Configuration Registers: Yes; 5V Tolerant I/O: Yes; Push-Pull I/O Type: Yes; Mounting Technology: Surface Mount; Code_JEDEC: MO-153; ComponentLink1Description: Datasheet; ComponentLink1URL: http://www.ti.com/general/docs/lit/getliterature.tsp?genericPartNumber=PCA9534A&fileType=pdf
footprint PW16_N (TSOP, 16-Leads, Body 5x4.4mm, Pitch 0.65mm, IPC Medium Density)
footprint PW16_L (TSOP, 16-Leads, Body 5x4.4mm, Pitch 0.65mm, IPC High Density)
footprint PW16_M (TSOP, 16-Leads, Body 5x4.4mm, Pitch 0.65mm, IPC Low Density)
pins: 1 A0 (in) "Address input. Connect directly to VCC or ground.", 2 A1 (in) "Address input. Connect directly to VCC or ground.", 3 A2 (in) "Address input. Connect directly to VCC or ground.", 4 P0 (io) "P-port input/output. Push-pull design structure.", 5 P1 (io) "P-port input/output. Push-pull design structure.", 6 P2 (io) "P-port input/output. Push-pull design structure.", 7 P3 (io) "P-port input/output. Push-pull design structure.", 8 GND (power) "Ground", 9 P4 (io) "P-port input/output. Push-pull design structure.", 10 P5 (io) "P-port input/output. Push-pull design structure.", 11 P6 (io) "P-port input/output. Push-pull design structure.", 12 P7 (io) "P-port input/output. Push-pull design structure.", 13 ~{INT} (oc) "Interrupt output. Connect to VCC through a pullup resistor.", 14 SCL (in) "Serial clock bus. Connect to VCC through a pullup resistor.", 15 SDA (io) "Serial data bus. Connect to VCC through a pullup resistor.", 16 VCC (power) "Supply voltage"

## PCA9534APWRG4
designator U?
Remote 8-Bit I2C and Low-Power I/O Expander with Interrupt Output and Configuration Register, 8 Outputs, 2.3 to 5.5 V, -40 to 85 degC, 16-pin TSSOP (PW), Green (RoHS & no Sb/Br); Manufacturer: Texas Instruments; PartNumber: PCA9534APWRG4; SubFamily: I2C IO Expander; No. of Outputs: 8; Interrupt Output: Yes; fSCLK(Max)(MHz): 0.1, 0.4; VCC(Min)(V): 2.3; VCC(Max)(V): 5.5; Max Frequency(kHz): 400; I2C Address: 0111 xxx; DatasheetVersion: SCPS141F; PackageVersion: revG, Feb-2011; PackageReference: PW16; PackageDescription: 16-Pin Plastic Thin Small Outline Package 5 x 4.4 mm Body ,0.65 mm Pitch; Supplier 1: Digi-Key; Supplier Part Number 1: PCA9534APWRG4-ND; Supplier 2: Mouser; Supplier Part Number 2: 595-PCA9534APWRG4; Eco-Plan: Green (RoHS & no Sb/Br); # of I/Os: 8; Vcc range(V): 2.3 to 5.5; Low Power: Yes; Configuration Registers: Yes; 5V Tolerant I/O: Yes; Push-Pull I/O Type: Yes; Mounting Technology: Surface Mount; Code_JEDEC: MO-153; ComponentLink1Description: Datasheet; ComponentLink1URL: http://www.ti.com/general/docs/lit/getliterature.tsp?genericPartNumber=PCA9534A&fileType=pdf
footprint PW16_N (TSOP, 16-Leads, Body 5x4.4mm, Pitch 0.65mm, IPC Medium Density)
footprint PW16_L (TSOP, 16-Leads, Body 5x4.4mm, Pitch 0.65mm, IPC High Density)
footprint PW16_M (TSOP, 16-Leads, Body 5x4.4mm, Pitch 0.65mm, IPC Low Density)
pins: 1 A0 (in) "Address input. Connect directly to VCC or ground.", 2 A1 (in) "Address input. Connect directly to VCC or ground.", 3 A2 (in) "Address input. Connect directly to VCC or ground.", 4 P0 (io) "P-port input/output. Push-pull design structure.", 5 P1 (io) "P-port input/output. Push-pull design structure.", 6 P2 (io) "P-port input/output. Push-pull design structure.", 7 P3 (io) "P-port input/output. Push-pull design structure.", 8 GND (power) "Ground", 9 P4 (io) "P-port input/output. Push-pull design structure.", 10 P5 (io) "P-port input/output. Push-pull design structure.", 11 P6 (io) "P-port input/output. Push-pull design structure.", 12 P7 (io) "P-port input/output. Push-pull design structure.", 13 ~{INT} (oc) "Interrupt output. Connect to VCC through a pullup resistor.", 14 SCL (in) "Serial clock bus. Connect to VCC through a pullup resistor.", 15 SDA (io) "Serial data bus. Connect to VCC through a pullup resistor.", 16 VCC (power) "Supply voltage"

## PCA9534ARGTR
designator U?
Remote 8-Bit I2C and Low-Power I/O Expander with Interrupt Output and Configuration Registers, 8 Outputs, 2.3 to 5.5 V, -40 to 85 degC, 16-pin QFN (RGT), Green (RoHS & no Sb/Br); Manufacturer: Texas Instruments; PartNumber: PCA9534ARGTR; SubFamily: I2C IO Expander; No. of Outputs: 8; Interrupt Output: Yes; fSCLK(Max)(MHz): 0.1, 0.4; VCC(Min)(V): 2.3; VCC(Max)(V): 5.5; Max Frequency(kHz): 400; I2C Address: 0111 xxx; DatasheetVersion: SCPS141F; PackageVersion: revH, Oct-2011; PackageReference: RGT16-1450X1450TP; PackageDescription: 16-Pin Plastic Quad Flat No-Lead, 3 x 3 mm Body, 0.5 mm Pitch, 1.45 x 1.45 mm Exposed Pad; Supplier 1: Digi-Key; Supplier Part Number 1: 296-24731-2-ND; Supplier 2: Digi-Key; Supplier Part Number 2: 296-24731-1-ND; Supplier 3: Digi-Key; Supplier Part Number 3: 296-24731-6-ND; Supplier 4: Newark; Supplier Part Number 4: 84M9688; Supplier 5: Mouser; Supplier Part Number 5: 595-PCA9534ARGTR; Eco-Plan: Green (RoHS & no Sb/Br); # of I/Os: 8; Vcc range(V): 2.3 to 5.5; Low Power: Yes; Configuration Registers: Yes; 5V Tolerant I/O: Yes; Push-Pull I/O Type: Yes; Mounting Technology: Surface Mount; Code_JEDEC: MO-220; ComponentLink1Description: Datasheet; ComponentLink1URL: http://www.ti.com/general/docs/lit/getliterature.tsp?genericPartNumber=PCA9534A&fileType=pdf; ComponentLink2Description: Package Specification; ComponentLink2URL: http://www.ti.com/litv/pdf/msso002e
footprint RGT16-1450X1450TP (QFN, 16-Leads, Body 3x3mm, Pitch 0.5mm, Thermal Pad 1.45x1.45mm, TI Recommended)
pins: 1 A2 (in) "Address input. Connect directly to VCC or ground.", 2 P0 (io) "P-port input/output. Push-pull design structure.", 3 P1 (io) "P-port input/output. Push-pull design structure.", 4 P2 (io) "P-port input/output. Push-pull design structure.", 5 P3 (io) "P-port input/output. Push-pull design structure.", 6 GND (power) "Ground", 7 P4 (io) "P-port input/output. Push-pull design structure.", 8 P5 (io) "P-port input/output. Push-pull design structure.", 9 P6 (io) "P-port input/output. Push-pull design structure.", 10 P7 (io) "P-port input/output. Push-pull design structure.", 11 ~{INT} (oc) "Interrupt output. Connect to VCC through a pullup resistor.", 12 SCL (in) "Serial clock bus. Connect to VCC through a pullup resistor.", 13 SDA (io) "Serial data bus. Connect to VCC through a pullup resistor.", 14 VCC (power) "Supply voltage", 15 A0 (in) "Address input. Connect directly to VCC or ground.", 16 A1 (in) "Address input. Connect directly to VCC or ground.", 17 EP "Exposed thermal pad"